# EAGLE library part DISPLAY (library pic_board_lib)
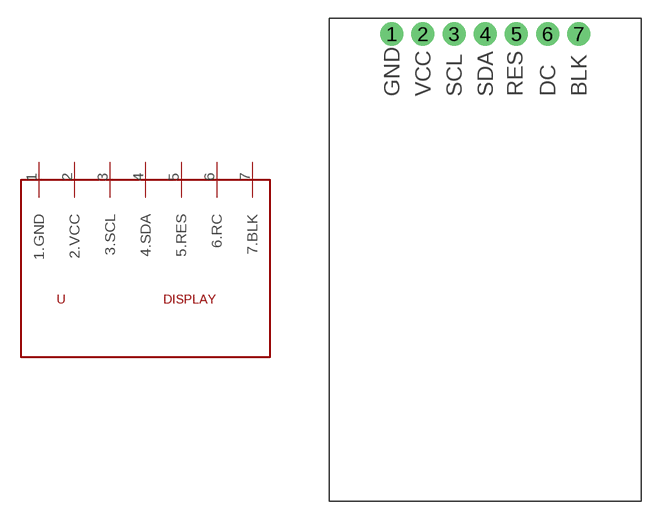
[diagram p16: symbol with the pads of DISPLAY; footprint DISPLAY]

Designator prefix -

## DISPLAY  [DISPLAY]
1  1.GND
2  2.VCC
3  3.SCL
4  4.SDA
5  5.RES
6  6.RC
7  7.BLK

## Footprint DISPLAY (pad centres in mm)
drill 1.016 pad 1.88: 1 -7.62,0; 2 -5.08,0; 3 -2.54,0; 4 0,0; 5 2.54,0; 6 5.08,0; 7 7.62,0